# Altium integrated library eagle-ltspice.IntLib: 65 symbols
Pins are listed as number, name and electrical type; pins without a type are passive.

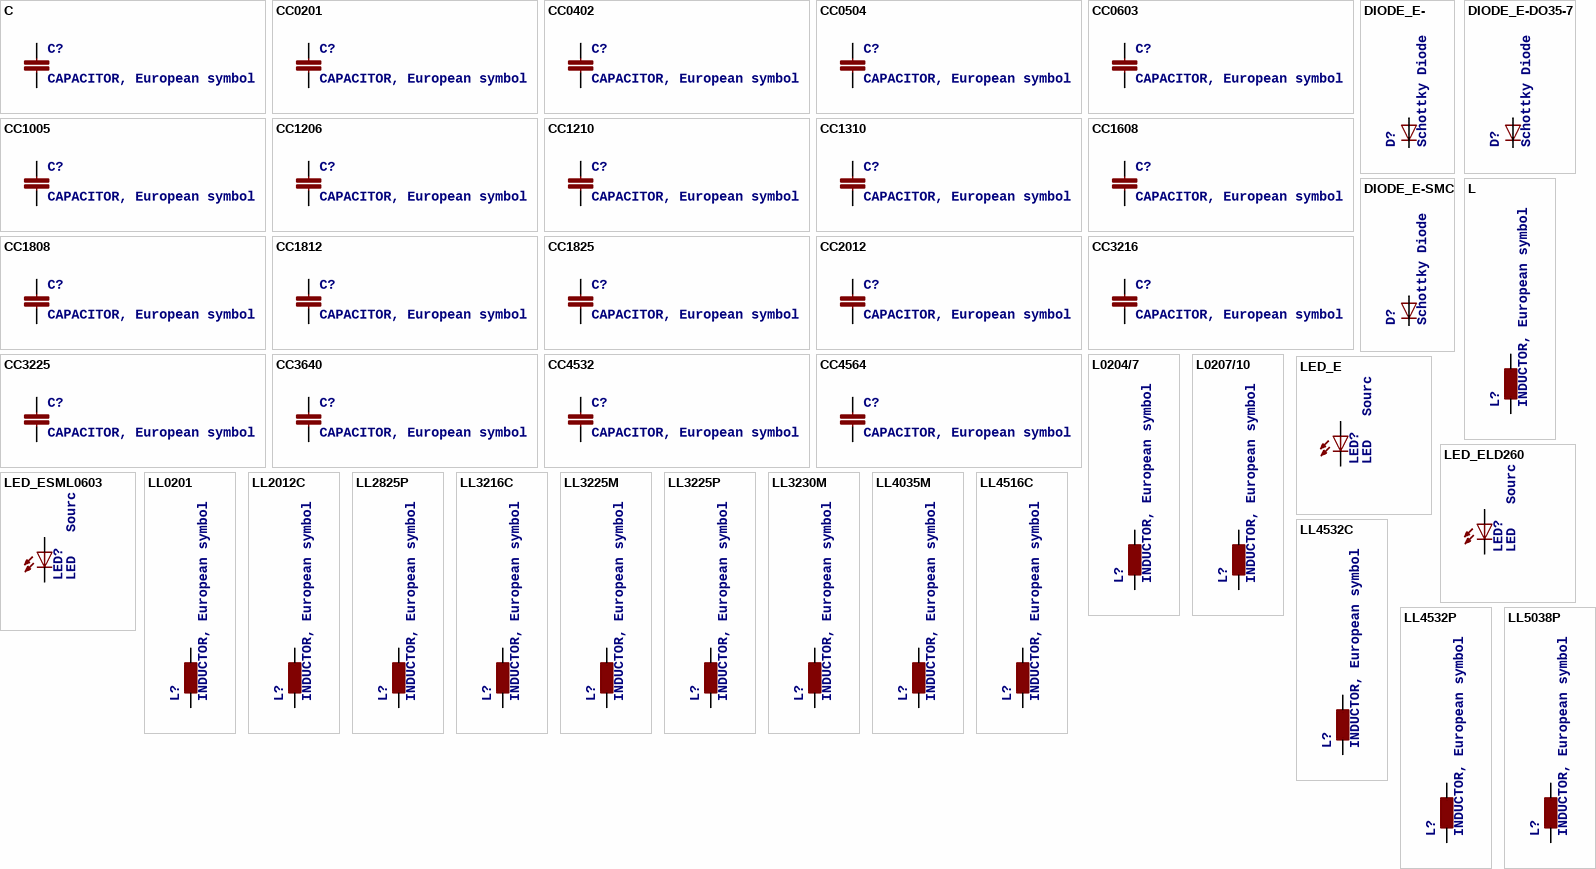
[diagram p0: symbols C to LL5038P]

## C
designator C?, comment CAPACITOR, European symbol
SPICEMODEL: NONE; SPICEPREFIX: C
footprint C0805
pins: 1, 2

## CC0201
designator C?, comment CAPACITOR, European symbol
SPICEMODEL: NONE; SPICEPREFIX: C
footprint C0201
pins: 1, 2

## CC0402
designator C?, comment CAPACITOR, European symbol
SPICEMODEL: NONE; SPICEPREFIX: C
footprint C0402
pins: 1, 2

## CC0504
designator C?, comment CAPACITOR, European symbol
SPICEMODEL: NONE; SPICEPREFIX: C
footprint C0504
pins: 1, 2

## CC0603
designator C?, comment CAPACITOR, European symbol
SPICEMODEL: NONE; SPICEPREFIX: C
footprint C0603
pins: 1, 2

## CC1005
designator C?, comment CAPACITOR, European symbol
SPICEMODEL: NONE; SPICEPREFIX: C
footprint C1005
pins: 1, 2

## CC1206
designator C?, comment CAPACITOR, European symbol
SPICEMODEL: NONE; SPICEPREFIX: C
footprint C1206
pins: 1, 2

## CC1210
designator C?, comment CAPACITOR, European symbol
SPICEMODEL: NONE; SPICEPREFIX: C
footprint C1210
pins: 1, 2

## CC1310
designator C?, comment CAPACITOR, European symbol
SPICEMODEL: NONE; SPICEPREFIX: C
footprint C1310
pins: 1, 2

## CC1608
designator C?, comment CAPACITOR, European symbol
SPICEMODEL: NONE; SPICEPREFIX: C
footprint C1608
pins: 1, 2

## CC1808
designator C?, comment CAPACITOR, European symbol
SPICEMODEL: NONE; SPICEPREFIX: C
footprint C1808
pins: 1, 2

## CC1812
designator C?, comment CAPACITOR, European symbol
SPICEMODEL: NONE; SPICEPREFIX: C
footprint C1812
pins: 1, 2

## CC1825
designator C?, comment CAPACITOR, European symbol
SPICEMODEL: NONE; SPICEPREFIX: C
footprint C1825
pins: 1, 2

## CC2012
designator C?, comment CAPACITOR, European symbol
SPICEMODEL: NONE; SPICEPREFIX: C
footprint C2012
pins: 1, 2

## CC3216
designator C?, comment CAPACITOR, European symbol
SPICEMODEL: NONE; SPICEPREFIX: C
footprint C3216
pins: 1, 2

## CC3225
designator C?, comment CAPACITOR, European symbol
SPICEMODEL: NONE; SPICEPREFIX: C
footprint C3225
pins: 1, 2

## CC3640
designator C?, comment CAPACITOR, European symbol
SPICEMODEL: NONE; SPICEPREFIX: C
footprint C3640
pins: 1, 2

## CC4532
designator C?, comment CAPACITOR, European symbol
SPICEMODEL: NONE; SPICEPREFIX: C
footprint C4532
pins: 1, 2

## CC4564
designator C?, comment CAPACITOR, European symbol
SPICEMODEL: NONE; SPICEPREFIX: C
footprint C4564
pins: 1, 2

## DIODE_E-
designator D?, comment Schottky Diode
SPICEMODEL: diode; SPICEPREFIX: D
footprint DIODE_SMB
pins: A C, C A

## DIODE_E-DO35-7
designator D?, comment Schottky Diode
SPICEMODEL: diode; SPICEPREFIX: D
footprint DIODE_DO35-7
pins: A C, C A

## DIODE_E-SMC
designator D?, comment Schottky Diode
SPICEMODEL: diode; SPICEPREFIX: D
footprint DIODE_SMC
pins: A C, C A

## L
designator L?, comment INDUCTOR, European symbol
SPICEMODEL: NONE; SPICEPREFIX: L
footprint L1812
pins: 1, 2

## L0204/7
designator L?, comment INDUCTOR, European symbol
SPICEMODEL: NONE; SPICEPREFIX: L
footprint 0204/7
pins: 1, 2

## L0207/10
designator L?, comment INDUCTOR, European symbol
SPICEMODEL: NONE; SPICEPREFIX: L
footprint 0207/10
pins: 1, 2

## LED_E
designator LED?, comment LED   Source: http://www.osram.convergy.de   Source: www.luxeon.com   Source: www.kingbright.com
SPICEMODEL: NONE; SPICEPREFIX: D; SPICETYPE: diode
footprint LED_1206
pins: A, C

## LED_ELD260
designator LED?, comment LED   Source: http://www.osram.convergy.de   Source: www.luxeon.com   Source: www.kingbright.com
SPICEMODEL: NONE; SPICEPREFIX: D; SPICETYPE: diode
footprint LED_LD260
pins: A, K C

## LED_ESML0603
designator LED?, comment LED   Source: http://www.osram.convergy.de   Source: www.luxeon.com   Source: www.kingbright.com
SPICEMODEL: NONE; SPICEPREFIX: D; SPICETYPE: diode
footprint LED_SML0603
pins: A, C

## LL0201
designator L?, comment INDUCTOR, European symbol
SPICEMODEL: NONE; SPICEPREFIX: L
footprint L0201
pins: 1, 2

## LL2012C
designator L?, comment INDUCTOR, European symbol
SPICEMODEL: NONE; SPICEPREFIX: L
footprint L2012C
pins: 1, 2

## LL2825P
designator L?, comment INDUCTOR, European symbol
SPICEMODEL: NONE; SPICEPREFIX: L
footprint L2825P
pins: 1, 2

## LL3216C
designator L?, comment INDUCTOR, European symbol
SPICEMODEL: NONE; SPICEPREFIX: L
footprint L3216C
pins: 1, 2

## LL3225M
designator L?, comment INDUCTOR, European symbol
SPICEMODEL: NONE; SPICEPREFIX: L
footprint L3225M
pins: 1, 2

## LL3225P
designator L?, comment INDUCTOR, European symbol
SPICEMODEL: NONE; SPICEPREFIX: L
footprint L3225P
pins: 1, 2

## LL3230M
designator L?, comment INDUCTOR, European symbol
SPICEMODEL: NONE; SPICEPREFIX: L
footprint L3230M
pins: 1, 2

## LL4035M
designator L?, comment INDUCTOR, European symbol
SPICEMODEL: NONE; SPICEPREFIX: L
footprint L4035M
pins: 1, 2

## LL4516C
designator L?, comment INDUCTOR, European symbol
SPICEMODEL: NONE; SPICEPREFIX: L
footprint L4516C
pins: 1, 2

## LL4532C
designator L?, comment INDUCTOR, European symbol
SPICEMODEL: NONE; SPICEPREFIX: L
footprint L4532M
pins: 1, 2

## LL4532P
designator L?, comment INDUCTOR, European symbol
SPICEMODEL: NONE; SPICEPREFIX: L
footprint L4532P
pins: 1, 2

## LL5038P
designator L?, comment INDUCTOR, European symbol
SPICEMODEL: NONE; SPICEPREFIX: L
footprint L5038P
pins: 1, 2

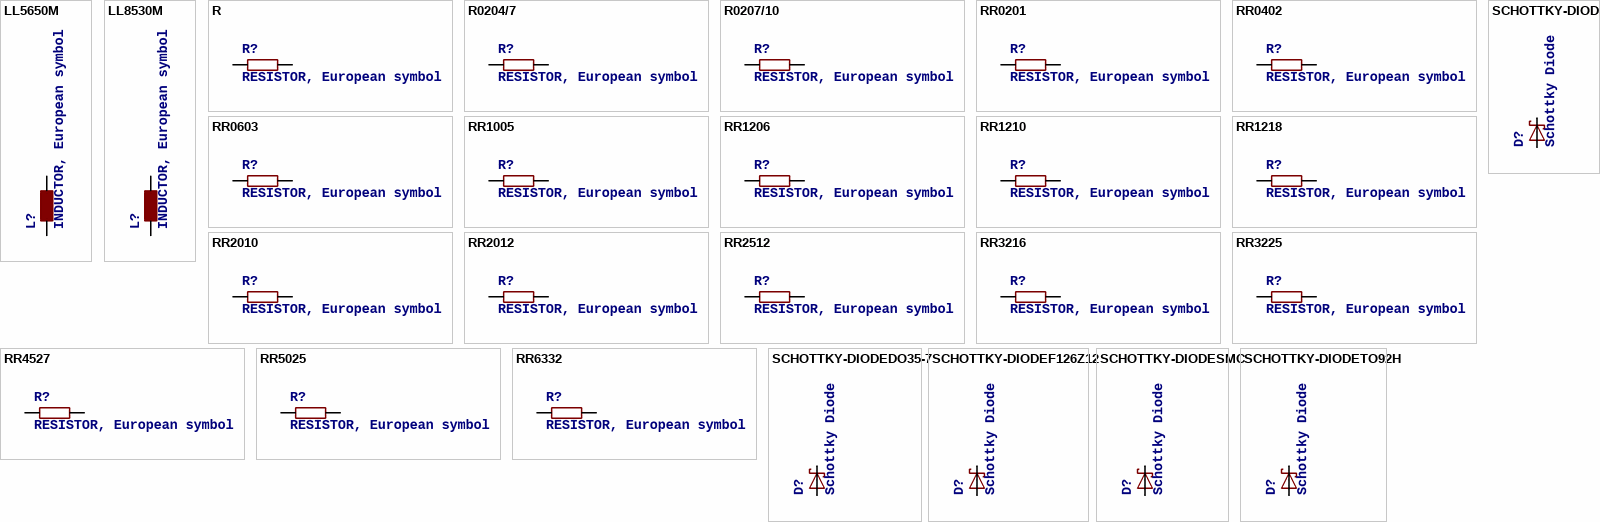
[diagram p1: symbols LL5650M to SCHOTTKY-DIODETO92H]

## LL5650M
designator L?, comment INDUCTOR, European symbol
SPICEMODEL: NONE; SPICEPREFIX: L
footprint L5650M
pins: 1, 2

## LL8530M
designator L?, comment INDUCTOR, European symbol
SPICEMODEL: NONE; SPICEPREFIX: L
footprint L8530M
pins: 1, 2

## R
designator R?, comment RESISTOR, European symbol
SPICEMODEL: NONE; SPICEPREFIX: R
footprint R0805
pins: 1, 2

## R0204/7
designator R?, comment RESISTOR, European symbol
SPICEMODEL: NONE; SPICEPREFIX: R
footprint 0204/7
pins: 1, 2

## R0207/10
designator R?, comment RESISTOR, European symbol
SPICEMODEL: NONE; SPICEPREFIX: R
footprint 0207/10
pins: 1, 2

## RR0201
designator R?, comment RESISTOR, European symbol
SPICEMODEL: NONE; SPICEPREFIX: R
footprint R0201
pins: 1, 2

## RR0402
designator R?, comment RESISTOR, European symbol
SPICEMODEL: NONE; SPICEPREFIX: R
footprint R0402
pins: 1, 2

## RR0603
designator R?, comment RESISTOR, European symbol
SPICEMODEL: NONE; SPICEPREFIX: R
footprint R0603
pins: 1, 2

## RR1005
designator R?, comment RESISTOR, European symbol
SPICEMODEL: NONE; SPICEPREFIX: R
footprint R1005
pins: 1, 2

## RR1206
designator R?, comment RESISTOR, European symbol
SPICEMODEL: NONE; SPICEPREFIX: R
footprint R1206
pins: 1, 2

## RR1210
designator R?, comment RESISTOR, European symbol
SPICEMODEL: NONE; SPICEPREFIX: R
footprint R1210
pins: 1, 2

## RR1218
designator R?, comment RESISTOR, European symbol
SPICEMODEL: NONE; SPICEPREFIX: R
footprint R1218
pins: 1, 2

## RR2010
designator R?, comment RESISTOR, European symbol
SPICEMODEL: NONE; SPICEPREFIX: R
footprint R2010
pins: 1, 2

## RR2012
designator R?, comment RESISTOR, European symbol
SPICEMODEL: NONE; SPICEPREFIX: R
footprint R2012
pins: 1, 2

## RR2512
designator R?, comment RESISTOR, European symbol
SPICEMODEL: NONE; SPICEPREFIX: R
footprint R2512
pins: 1, 2

## RR3216
designator R?, comment RESISTOR, European symbol
SPICEMODEL: NONE; SPICEPREFIX: R
footprint R3216
pins: 1, 2

## RR3225
designator R?, comment RESISTOR, European symbol
SPICEMODEL: NONE; SPICEPREFIX: R
footprint R3225
pins: 1, 2

## RR4527
designator R?, comment RESISTOR, European symbol
SPICEMODEL: NONE; SPICEPREFIX: R
footprint R4527
pins: 1, 2

## RR5025
designator R?, comment RESISTOR, European symbol
SPICEMODEL: NONE; SPICEPREFIX: R
footprint R5025
pins: 1, 2

## RR6332
designator R?, comment RESISTOR, European symbol
SPICEMODEL: NONE; SPICEPREFIX: R
footprint R6332
pins: 1, 2

## SCHOTTKY-DIODE
designator D?, comment Schottky Diode
SPICEMODEL: NONE; SPICEPREFIX: D; SPICETYPE: diode
footprint DIODE_SMB
pins: A C, C A

## SCHOTTKY-DIODEDO35-7
designator D?, comment Schottky Diode
SPICEMODEL: NONE; SPICEPREFIX: D; SPICETYPE: diode
footprint DIODE_DO35-7
pins: A C, C A

## SCHOTTKY-DIODEF126Z12
designator D?, comment Schottky Diode
SPICEMODEL: NONE; SPICEPREFIX: D; SPICETYPE: diode
footprint DIODE_F126Z12
pins: A C, C A

## SCHOTTKY-DIODESMC
designator D?, comment Schottky Diode
SPICEMODEL: NONE; SPICEPREFIX: D; SPICETYPE: diode
footprint DIODE_SMC
pins: A C, C A

## SCHOTTKY-DIODETO92H
designator D?, comment Schottky Diode
SPICEMODEL: NONE; SPICEPREFIX: D; SPICETYPE: diode
footprint DIODE_TO92H
pins: 1 C, 2 A